# Altium schematic symbol library xbee 20-pin header.Schlib: 1 symbol
Pins are listed as number, name and electrical type; pins without a type are passive.

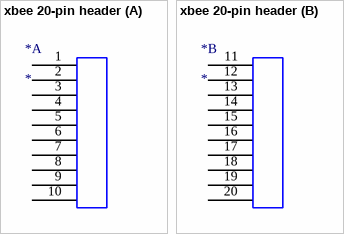
[diagram p0: symbol xbee 20-pin header]

## xbee 20-pin header
designator *
footprint XBee PRO header
part A pins: 1, 2, 3, 4, 5, 6, 7, 8, 9, 10
part B pins: 11, 12, 13, 14, 15, 16, 17, 18, 19, 20